# EAGLE library part IC_FT230X (library tccs_reader)
BASIC USB to UART IC
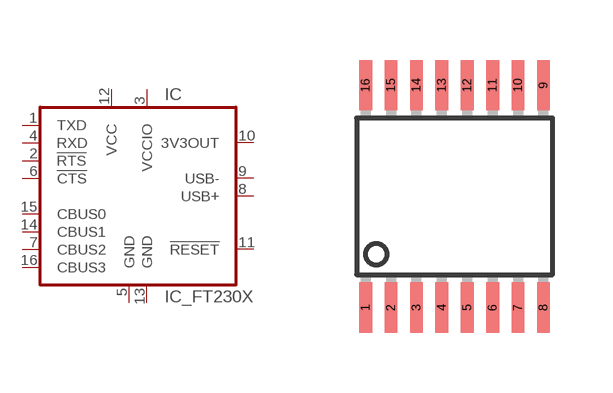
[diagram p5: symbol with the pads of SSOP-16-FTDI; footprint SSOP-16-FTDI]

Designator prefix IC

## IC_FT230X-SSOP-16  [SSOP-16-FTDI]
1  TXD  out
2  !RTS
3  VCCIO  pwr
4  RXD  in
5  GND  sup
6  !CTS
7  CBUS2
8  USB+  out
9  USB-  in
10  3V3OUT  pwr
11  !RESET
12  VCC  sup
13  GND  sup
14  CBUS1
15  CBUS0
16  CBUS3

## Footprint SSOP-16-FTDI (pad centres in mm)
SSOP-16, 0.32 x 1.26 mm pad, 0.63mm pitch, 6.82mm Pad length
smd 0.32 x 1.26: 1 -2.223,-2.779; 2 -1.588,-2.779; 3 -0.953,-2.779; 4 -0.318,-2.779; 5 0.317,-2.779; 6 0.952,-2.779; 7 1.587,-2.779; 8 2.222,-2.779; 9 2.222,2.779; 10 1.587,2.779; 11 0.952,2.779; 12 0.317,2.779; 13 -0.318,2.779; 14 -0.953,2.779; 15 -1.588,2.779; 16 -2.223,2.779